# Altium footprint library SOT 143.PcbLib: 8 footprints
Each footprint in its own frame and in the unit in brackets; x right, y up, seen from the top. Pads: shape width x height; smd on the part's side, far side on the other; paste and mask are expansions set on the pad; w line width, h text height; cw(c..) or ccw(c..) is an arc to the next point about the centre after c.
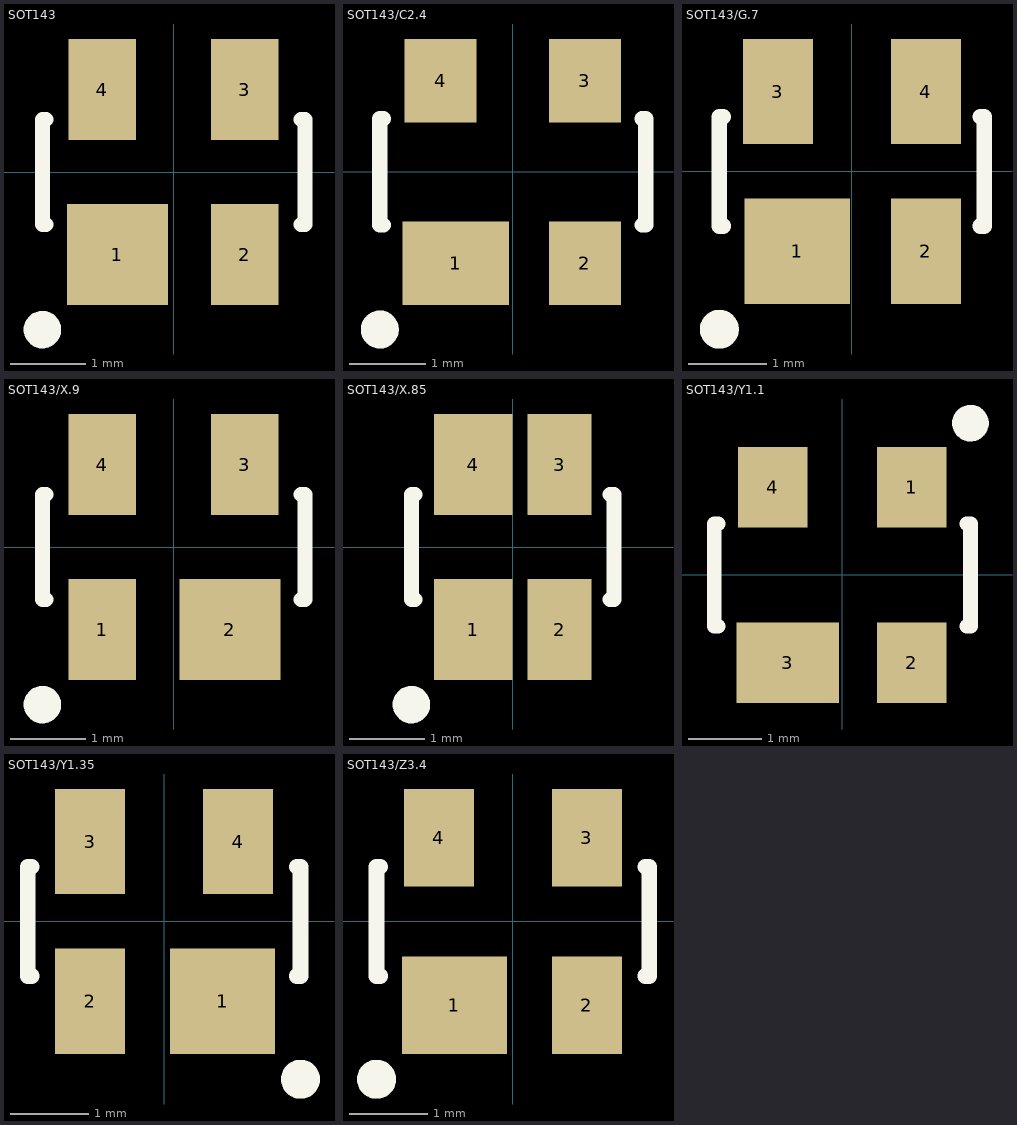
[diagram p0: the footprints below, top view; thin cyan lines are the x and y axes]

## SOT143 [mm] "SOT-143; 4 Leads; Body 3 x 2.6 mm, inc. leads (LxW max)"
height 1.1
pads (4):
  rect 1.35x1.35 smd: 1(-0.75,-1.1)
  rect 0.9x1.35 smd: 2(0.95,-1.1) 3(0.95,1.1) 4(-0.95,1.1)
Top Overlay:
  circle w0.25: c-1.75,-2.1 r0.125
  lines w0.2: -1.7,-0.7 -1.75,-0.7 -1.75,0.7 -1.7,0.7 ; 1.7,-0.7 1.75,-0.7 1.75,0.7 1.7,0.7

## SOT143/C2.4 [mm] "SOT-143; 4 Leads; Body 3 x 2.5 mm, inc. leads (LxW max)"
height 1.2
pads (4):
  rect 1.4x1.1 smd: 1(-0.75,-1.2)
  rect 0.95x1.1 smd: 2(0.95,-1.2) 3(0.95,1.2) 4(-0.95,1.2)
Top Overlay:
  circle w0.25: c-1.75,-2.075 r0.125
  lines w0.2: -1.7,-0.7 -1.75,-0.7 -1.75,0.7 -1.7,0.7 ; 1.7,-0.7 1.75,-0.7 1.75,0.7 1.7,0.7

## SOT143/G.7 [mm] "SOT-143; 4 Leads; Body 3 x 2.5 mm, inc. leads (LxW max)"
height 1.14
pads (4):
  rect 1.35x1.35 smd: 1(-0.7,-1.025)
  rect 0.9x1.35 smd: 2(0.95,-1.025) 3(-0.95,1.025) 4(0.95,1.025)
Top Overlay:
  circle w0.25: c-1.7,-2.025 r0.125
  lines w0.2: -1.65,-0.7 -1.7,-0.7 -1.7,0.7 -1.65,0.7 ; 1.65,-0.7 1.7,-0.7 1.7,0.7 1.65,0.7

## SOT143/X.9 [mm] "SOT-143; 4 Leads; Body 3 x 2.6 mm, inc. leads (LxW max)"
height 1.1
pads (4):
  rect 0.9x1.35 smd: 1(-0.95,-1.1) 3(0.95,1.1) 4(-0.95,1.1)
  rect 1.35x1.35 smd: 2(0.75,-1.1)
Top Overlay:
  circle w0.25: c-1.75,-2.1 r0.125
  lines w0.2: -1.7,-0.7 -1.75,-0.7 -1.75,0.7 -1.7,0.7 ; 1.7,-0.7 1.75,-0.7 1.75,0.7 1.7,0.7

## SOT143/X.85 [mm] "SOT-143; 4 Leads; Body 3 x 2.6 mm, inc. leads (LxW max)"
height 1.1
pads (4):
  rect 1.05x1.35 smd: 1(-0.525,-1.1) 4(-0.525,1.1)
  rect 0.85x1.35 smd: 2(0.625,-1.1) 3(0.625,1.1)
Top Overlay:
  circle w0.25: c-1.35,-2.1 r0.125
  lines w0.2: -1.3,-0.7 -1.35,-0.7 -1.35,0.7 -1.3,0.7 ; 1.3,-0.7 1.35,-0.7 1.35,0.7 1.3,0.7

## SOT143/Y1.1 [mm] "SOT-143; 4 Leads; Body 3 x 2.5 mm, inc. leads (LxW max)"
height 1.2
pads (4):
  rect 0.95x1.1 smd: 1(0.95,1.2) 2(0.95,-1.2) 4(-0.95,1.2)
  rect 1.4x1.1 smd: 3(-0.75,-1.2)
Top Overlay:
  circle w0.25: c1.75,2.075 r0.125
  lines w0.2: -1.7,-0.7 -1.75,-0.7 -1.75,0.7 -1.7,0.7 ; 1.7,-0.7 1.75,-0.7 1.75,0.7 1.7,0.7

## SOT143/Y1.35 [mm] "SOT-143; 4 Leads; Body 3 x 2.5 mm, inc. leads (LxW max); Reverse Pinning"
height 1.1
pads (4):
  rect 1.35x1.35 smd: 1(0.75,-1.025)
  rect 0.9x1.35 smd: 2(-0.95,-1.025) 3(-0.95,1.025) 4(0.95,1.025)
Top Overlay:
  circle w0.25: c1.75,-2.025 r0.125
  lines w0.2: -1.7,-0.7 -1.75,-0.7 -1.75,0.7 -1.7,0.7 ; 1.7,-0.7 1.75,-0.7 1.75,0.7 1.7,0.7

## SOT143/Z3.4 [mm] "SOT-143; 4 Leads; Body 3 x 2.5 mm, inc. leads (LxW max)"
height 1.1
pads (4):
  rect 1.35x1.25 smd: 1(-0.75,-1.075)
  rect 0.9x1.25 smd: 2(0.95,-1.075) 3(0.95,1.075) 4(-0.95,1.075)
Top Overlay:
  circle w0.25: c-1.75,-2.025 r0.125
  lines w0.2: -1.7,-0.7 -1.75,-0.7 -1.75,0.7 -1.7,0.7 ; 1.7,-0.7 1.75,-0.7 1.75,0.7 1.7,0.7